# Altium footprint library Res_Yageo_RC1206FR-0722KL_eec_MFG.PcbLib: 1 footprints
Each footprint in its own frame and in the unit in brackets; x right, y up, seen from the top. Pads: shape width x height; smd on the part's side, far side on the other; paste and mask are expansions set on the pad; w line width, h text height; cw(c..) or ccw(c..) is an arc to the next point about the centre after c.
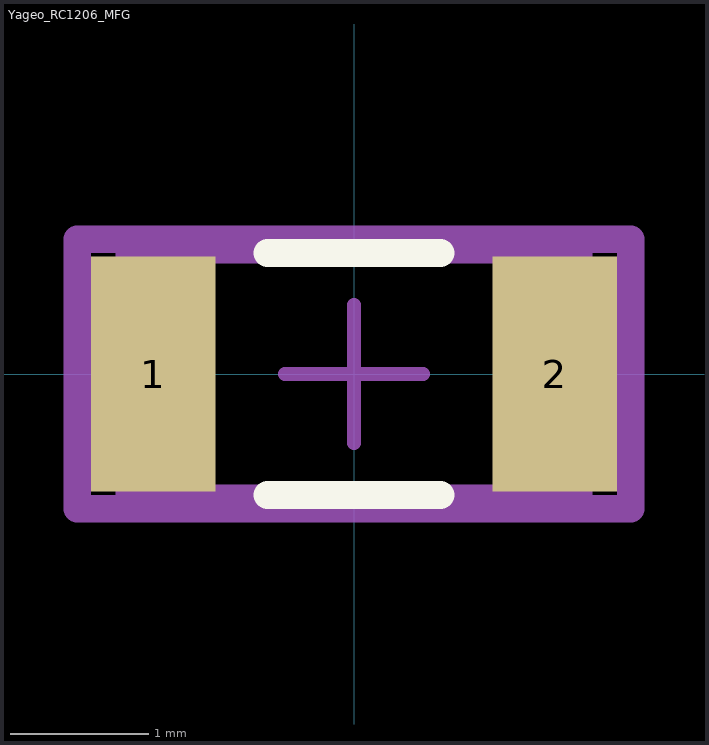
[diagram p0: the footprint, top view; thin cyan lines are the x and y axes]

## Yageo_RC1206_MFG [mm]
pads (2):
  rect 0.9x1.7 smd paste+0 mask+0: 1(-1.45,0) 2(1.45,0)
Top Overlay:
  lines w0.2: -0.625,-0.875 0.625,-0.875 ; -0.625,0.875 0.625,0.875
Mechanical 10:
  lines w0.2: -2,-0.975 2,-0.975 2,0.975 -2,0.975 -2,-0.975
  text ".Designator" at 0,0 h1
Mechanical 12:
  lines w0.15: -1.65,-0.875 1.65,-0.875 1.65,0.875 -1.65,0.875 -1.65,-0.875
Mechanical 15:
  lines w0.1: -0.5,0 0.5,0 ; 0,-0.5 0,0.5
  lines w0.2: -2,-0.975 2,-0.975 2,0.975 -2,0.975 -2,-0.975
3D body "Res_Yageo_RC1206FR-0722KL_eec.STEP": height 0.25, standoff 0, extent -2,-0.975 2,0.975